# Altium integrated library IRF9540NSPBF.IntLib: 1 symbol
Pins are listed as number, name and electrical type; pins without a type are passive.

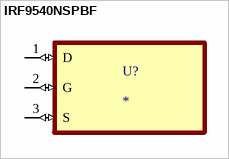
[diagram p0: symbol IRF9540NSPBF]

## IRF9540NSPBF
designator U?
RoHS Compliant | Low RDS(on) | Industry-leading quality | Dynamic dv/dt Rating | Fast Switching | Fully Avalanche Rated | 175C Operating Temperature | P-Channel MOSFET; MF: Infineon; MP: IRF9540NSPBF; Value: *; Price: None; Package: D2PAK Infineon; Check_prices: https://www.snapeda.com/parts/IRF9540NSPBF/Infineon%20Technologies/view-part/572451/?ref=eda; Availability: Unavailable; SnapEDA_Link: https://www.snapeda.com/parts/IRF9540NSPBF/Infineon%20Technologies/view-part/572451/?ref=snap
footprint DPAK508P1524X483-3N
pins: 1 D (io), 2 G (io), 3 S (io)